# Altium schematic symbol library MF-LEDS.SchLib: 7 symbols
Pins are listed as number, name and electrical type; pins without a type are passive.

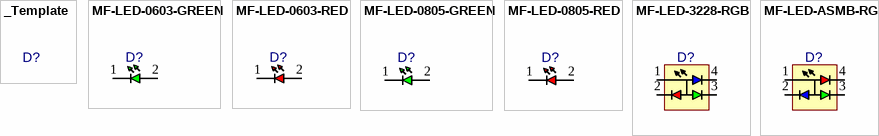
[diagram p0: symbols _Template to MF-LED-ASMB-RGB]

## _Template
designator D?  (value not drawn)
Type: *; Operating Temperature Range: *; Color: *; Luminous Intensity: *; RoHS: *; Forward Voltage: *; Viewing Angle: *; Package: *; ComponentLink1Description: Datasheet; ComponentLink1URL: *; ComponentLink2Description: Supplier Link 1; ComponentLink2URL: *; Supplier 1: Macrofab; Supplier Part Number 1: *; Manufacturer 1: *; Manufacturer Part Number 1: *; Wavelength: *

## MF-LED-0603-GREEN
designator D?  (value not drawn)
Green LED 571nm 35mcd 0603; Manufacturer 1: Lite-On; Manufacturer Part Number 1: LTST-C190KGKT; Type: Standard LED - SMD; Forward Voltage: 2V; Viewing Angle: 130 Degrees; Operating Temperature Range: - 55 C to + 85 C; Color: Green; Luminous Intensity: 35 mcd; RoHS: Compliant; Package: 0603; ComponentLink1Description: Datasheet; ComponentLink1URL: https://s3.amazonaws.com/mfprodpublic/datasheets/S_110_LTST-C190KGKT.pdf; ComponentLink2Description: Supplier Link 1; ComponentLink2URL: https://factory.macrofab.com/part/MF-LED-0603-GREEN; Supplier 1: Macrofab; Supplier Part Number 1: MF-LED-0603-GREEN; Wavelength: 571nm
footprint LED0603 (0603 (1608 Metric))
pins: 1 "- Cathode", 2 "+ Anode"

## MF-LED-0603-RED
designator D?  (value not drawn)
Red LED 631nm 54mcd 0603; Manufacturer 1: Lite-On; Manufacturer Part Number 1: LTST-C190KRKT; Type: Standard LED - SMD; Forward Voltage: 2V; Viewing Angle: 130 Degrees; Operating Temperature Range: - 55 C to + 85 C; Color: Red; Luminous Intensity: 54 mcd; RoHS: Compliant; Package: 0603; ComponentLink1Description: Datasheet; ComponentLink1URL: https://s3.amazonaws.com/devpublic1/datasheets/S_110_LTST-C190KRKT-369667.pdf; ComponentLink2Description: Supplier Link 1; ComponentLink2URL: https://factory.macrofab.com/part/MF-LED-0603-RED; Supplier 1: Macrofab; Supplier Part Number 1: MF-LED-0603-RED; Wavelength: 631nm
footprint LED0603 (0603 (1608 Metric))
pins: 1 "- Cathode", 2 "+ Anode"

## MF-LED-0805-GREEN
designator D?  (value not drawn)
Green LED 569nm 12mcd 0805; Manufacturer 1: Lite-On; Manufacturer Part Number 1: LTST-C171GKT; Type: Standard LED - SMD; Forward Voltage: 2.1V; Viewing Angle: 130 Degrees; Wavelength: 638nm; Operating Temperature Range: - 55 C to + 85 C; Color: Green; Luminous Intensity: 12 mcd; RoHS: Compliant; Package: 0805; ComponentLink1Description: Datasheet; ComponentLink1URL: https://s3.amazonaws.com/devpublic1/datasheets/LTST-C171GKT-GREEN.pdf; ComponentLink2Description: Supplier Link 1; ComponentLink2URL: https://factory.macrofab.com/part/MF-LED-0805-GREEN; Supplier 1: Macrofab; Supplier Part Number 1: MF-LED-0805-GREEN
footprint LED0805 (Chip Diode, 2-Leads, Body 2.00x1.25mm, IPC Medium Density)
pins: 1 "- Cathode", 2 "+ Anode"

## MF-LED-0805-RED
designator D?  (value not drawn)
Red LED 638nm 25mcd 0805; Manufacturer 1: Lite-On; Manufacturer Part Number 1: LTST-C171CKT; Type: Standard LED - SMD; Forward Voltage: 1.8V; Viewing Angle: 130 Degrees; Operating Temperature Range: - 55 C to + 85 C; Color: Red; Luminous Intensity: 25 mcd; RoHS: Compliant; Package: 0805; ComponentLink1Description: Datasheet; ComponentLink1URL: https://s3.amazonaws.com/devpublic1/datasheets/LTST-C171CKT.pdf; ComponentLink2Description: Supplier Link 1; ComponentLink2URL: https://factory.macrofab.com/part/MF-LED-0805-RED; Supplier 1: Macrofab; Supplier Part Number 1: MF-LED-0805-RED; Wavelength: 638nm
footprint LED0805 (Chip Diode, 2-Leads, Body 2.00x1.25mm, IPC Medium Density)
pins: 1 "- Cathode", 2 "+ Anode"

## MF-LED-3228-RGB
designator D?  (value not drawn)
Tri-Color RGB LED 3228 SMD PLCC-4; Manufacturer 1: Cree; Manufacturer Part Number 1: CLV1L-FKB-CJMNQEGBB7673673; Viewing Angle: 120 Degrees; Green Brightness (537.5nm): 710 mcd; Green Forward Voltage: 3.2V; LED Size: 3.2 mm x 2.8 mm x 1.9 mm; Blue Brightness (477.5nm): 140 mcd; Red Forward Voltage: 2.0V; Red Brightness (624nm): 355 mcd; Operating Temperature Range: - 40 C to + 100 C; RoHS: Compliant; Package: PLCC-4; ComponentLink1Description: Datasheet; ComponentLink1URL: https://s3.amazonaws.com/mfprodpublic/datasheets/CLV1L%20FKB%201238-218261.pdf; ComponentLink2Description: Supplier Link 1; ComponentLink2URL: https://factory.macrofab.com/part/MF-LED-3228-RGB; Supplier 1: Macrofab; Supplier Part Number 1: MF-LED-3228-RGB; Height: 1.9 mm; Blue Forward Voltage: 3.2V; Number of Pins: 4
footprint PLCC-4
pins: 1 Anode "- Cathode", 2 RED CATHODE "+ Anode", 3 GREEN CATHODE "+ Anode", 4 BLUE CATHODE "+ Anode"

## MF-LED-ASMB-RGB
designator D?  (value not drawn)
Tri-Color RGB LED SMD PLCC-4; Manufacturer 1: Broadcom Limited; Manufacturer Part Number 1: ASMB-MTB0-0A3A2; Viewing Angle: 115 Degrees; Millicandela Rating Green: 1600 mcd; Forward Voltage Green: 3.1 V; Forward Current Blue: 25mA; Configuration: Common Anode RGB; Forward Voltage Red: 2.1 V; Millicandela Rating Blue: 350 mcd; Millicandela Rating Red: 540 mcd; Operating Temperature Range: - 40 C to + 100 C; RoHS: Compliant; Package: PLCC-4; ComponentLink1Description: Datasheet; ComponentLink1URL: https://s3.amazonaws.com/mfprodpublic/datasheets/av02-4186en_ds_asmb-mtb0_2015-05-21.pdf; ComponentLink2Description: Supplier Link 1; ComponentLink2URL: https://factory.macrofab.com/part/MF-LED-ASMB-RGB; Supplier 1: Macrofab; Supplier Part Number 1: MF-LED-ASMB-RGB; Forward Voltage Blue: 3.1 V; Forward Current Red: 25mA; Forward Current Green: 25mA; Size: 3.20mm L x 2.80mm W; Mount: SMT; Height: 1.90mm; Number of Pins: 4
footprint PLCC-4
pins: 1 Anode "- Cathode", 2 BLUE CATHODE "+ Anode", 3 GREEN CATHODE "+ Anode", 4 RED CATHODE "+ Anode"